# EAGLE library part 692622420101 (library Eagle_WR-USB (rev22b))
WR-COM Micro USB 3.0 Type B Vertical SMT Kind Properties Durability:10 000 Mating cycles Connector Type:Micro USB Gender:Receptacle Type:Vertical General Information Operating Temperature:-30up to +85 °C Compliance:RoHS Electrical Properties IR 1:1.8A Working Voltage:30V (AC) Withstanding Voltage:100V (AC) Contact Resistance:30 mΩ Material Properties Insulator Material:LCP Insulator Flammability Rating:UL94 V-0 Color:Black Cover Material:Stainless Steel Cover Plating:Nickel Contact Material:Brass Contact Plating:Gold over Nickel Contact Type:Stamped <https://www.we-online.com/catalog/media/o58974v209%20Family_WR-COM_692622420101.jpg> Details see: https://www.we-online.com/katalog/en/COM_MICRO_3_0_SMT_TYPE_B_VERTICAL Updated by Ella Wu 2020-12-28 2020 (C) Würth Elektronik
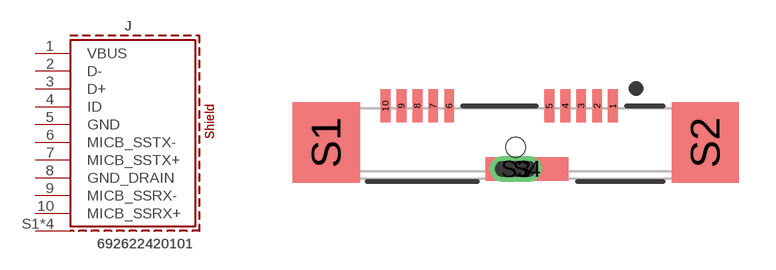
[diagram p16: symbol with the pads of 692622420101; footprint 692622420101]

Designator prefix J

## 692622420101 (APPLICATION: Micro USB 3.0; DATASHEET-URL: https://www.we-online.com/redexpert/spec/692622420101?ae; GERDER: Receptacle; INTERFACE-TYPE: Type B; IR: 1.8A; MOUNT: SMT; PACKAGING: Tape and Reel with Cap; PART-NUMBER: 692622420101; PINS: 10; TYPE: Vertical; VALUE: 692622420101; WORKING-VOLTAGE: 30V(AC))  [692622420101]
1  VBUS  pas
2  D-  pas
3  D+  pas
4  ID  pas
5  GND  pas
6  MICB_SSTX-  pas
7  MICB_SSTX+  pas
8  GND_DRAIN  pas
9  MICB_SSRX-  pas
10  MICB_SSRX+  pas
S1  SHIELD  pas
S2  SHIELD  pas
S3  SHIELD  pas
S4  SHIELD  pas

## Footprint 692622420101 (pad centres in mm)
WR-COM Micro USB 3.0 Type B Vertical SMT
smd 0.4 x 1.35: 1 4.65,1.39; 2 4,1.39; 3 3.35,1.39; 4 2.7,1.39; 5 2.05,1.39; 6 -2.05,1.39; 7 -2.7,1.39; 8 -3.35,1.39; 9 -4,1.39; 10 -4.65,1.39
smd 2.75 x 3.3: S1 -7.08,-0.11; S2 8.42,-0.11
drill 0.55 pad 0.95 long: S3 0.67,-1.19
smd 3.4 x 0.95: S4 1.13,-1.19
hole 0.8 at 0.67,-0.3